# EAGLE library part ATTINY412-SSF (library 2023-02-27_18-16-31_Library)
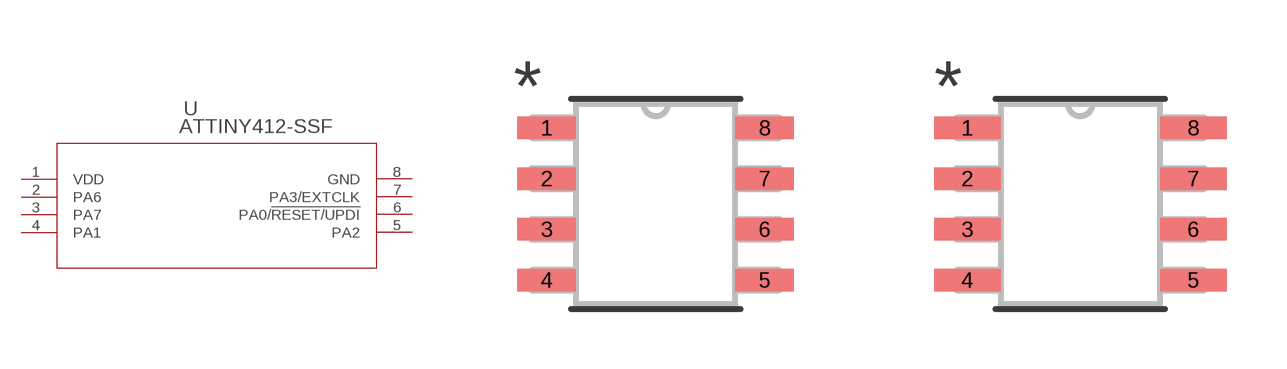
[diagram p0: symbol with the pads of SOIC8_SA_SST_MCH; footprints SOIC8_SA_SST_MCH, SOIC8_SA_SST_MCH-M]

Designator prefix U

## ATTINY412-SSFSOIC8_SA_SST_MCH (Copyright: Copyright (C) 2023 Ultra Librarian. All rights reserved.; Manufacturer_Part_Number: ATTINY412-SSF; Mfr_Name: Microchip)  [SOIC8_SA_SST_MCH]
1  VDD  pwr
2  PA6
3  PA7
4  PA1
5  PA2
6  PA0/!RESET/UPDI
7  PA3/EXTCLK
8  GND  pas

## ATTINY412-SSFSOIC8_SA_SST_MCH-M (Copyright: Copyright (C) 2023 Ultra Librarian. All rights reserved.; Manufacturer_Part_Number: ATTINY412-SSF; Mfr_Name: Microchip)  [SOIC8_SA_SST_MCH-M]
Pads as for SOIC8_SA_SST_MCH

## ATTINY412-SSFSOIC8_SA_SST_MCH-L (Copyright: Copyright (C) 2023 Ultra Librarian. All rights reserved.; Manufacturer_Part_Number: ATTINY412-SSF; Mfr_Name: Microchip)  [SOIC8_SA_SST_MCH-L]
Pads as for SOIC8_SA_SST_MCH

## Footprint SOIC8_SA_SST_MCH (pad centres in mm)
smd 1.46 x 0.559: 1 -2.724,1.905; 2 -2.724,0.635; 3 -2.724,-0.635; 4 -2.724,-1.905; 5 2.724,-1.905; 6 2.724,-0.635; 7 2.724,0.635; 8 2.724,1.905

## Footprint SOIC8_SA_SST_MCH-M (pad centres in mm)
smd 1.664 x 0.559: 1 -2.826,1.905; 2 -2.826,0.635; 3 -2.826,-0.635; 4 -2.826,-1.905; 5 2.826,-1.905; 6 2.826,-0.635; 7 2.826,0.635; 8 2.826,1.905

## Footprint SOIC8_SA_SST_MCH-L (pad centres in mm)
smd 1.257 x 0.508: 1 -2.623,1.905; 2 -2.623,0.635; 3 -2.623,-0.635; 4 -2.623,-1.905; 5 2.623,-1.905; 6 2.623,-0.635; 7 2.623,0.635; 8 2.623,1.905